# EAGLE library part TMM-113-XX-X-D (library con-samtec-tmm)
HEADER
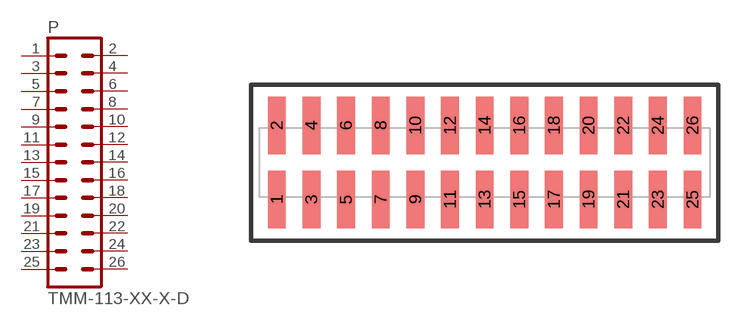
[diagram p10: symbol with the pads of TMM-113-XX-X-D; footprint TMM-113-XX-X-D]

Designator prefix P

## TMM-113-XX-X-D  [TMM-113-XX-X-D]
1  1  pas
2  2  pas
3  3  pas
4  4  pas
5  5  pas
6  6  pas
7  7  pas
8  8  pas
9  9  pas
10  10  pas
11  11  pas
12  12  pas
13  13  pas
14  14  pas
15  15  pas
16  16  pas
17  17  pas
18  18  pas
19  19  pas
20  20  pas
21  21  pas
22  22  pas
23  23  pas
24  24  pas
25  25  pas
26  26  pas

## Footprint TMM-113-XX-X-D (pad centres in mm)
HEADER
smd 1.02 x 3.3: 1 -12,-2.134; 2 -12,2.134; 3 -10,-2.134; 4 -10,2.134; 5 -8,-2.134; 6 -8,2.134; 7 -6,-2.134; 8 -6,2.134; 9 -4,-2.134; 10 -4,2.134; 11 -2,-2.134; 12 -2,2.134; 13 0,-2.134; 14 0,2.134; 15 2,-2.134; 16 2,2.134; 17 4,-2.134; 18 4,2.134; 19 6,-2.134; 20 6,2.134; 21 8,-2.134; 22 8,2.134; 23 10,-2.134; 24 10,2.134; 25 12,-2.134; 26 12,2.134